# Altium schematic symbol library Inverters.SchLib: 1 symbol
Pins are listed as number, name and electrical type; pins without a type are passive.

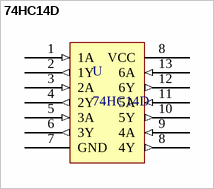
[diagram p0: symbol 74HC14D]

## 74HC14D
designator U
footprint LC-SOIC-14_150mil
pins: 1 1A (in), 2 1Y (out), 3 2A (in), 4 2Y (out), 5 3A (in), 6 3Y (out), 7 GND (power), 8 4Y (out), 8 VCC (power), 9 4A (in), 10 5Y (out), 11 5A (in), 12 6Y (out), 13 6A (in)